# Altium integrated library Diodes Rectifiers Fast Recovery.IntLib: 1 symbol
Pins are listed as number, name and electrical type; pins without a type are passive.

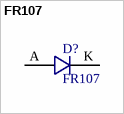
[diagram p0: symbol FR107]

## FR107
designator D?
DIODES - RECTIFIERS - FAST RECOVERY 1KV 1A 1.3V @ 1A 500NS SOD-123F ROHS; Manufacturer: Shikues; MFR.Part #: FR107W; ComponentLink1Description: Datasheet; ComponentLink1URL: https://datasheet.lcsc.com/szlcsc/SK-FR107W_C122857.pdf; LCSC Part #: C122857; Parameter 2: *; Package: SOD-123
footprint PCBComponent_1
pins: A, K